# Altium footprint library XDCR_VCNL3020-GS18__TCXO.PcbLib: 1 footprints
Each footprint in its own frame and in the unit in brackets; x right, y up, seen from the top. Pads: shape width x height; smd on the part's side, far side on the other; paste and mask are expansions set on the pad; w line width, h text height; cw(c..) or ccw(c..) is an arc to the next point about the centre after c.
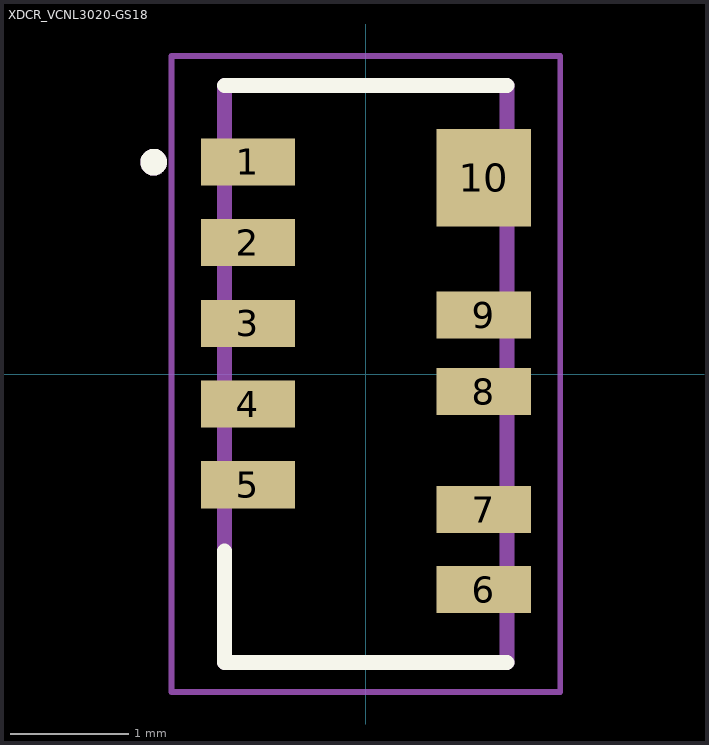
[diagram p0: the footprint, top view; thin cyan lines are the x and y axes]

## XDCR_VCNL3020-GS18 [mm]
pads (10):
  rect 0.8x0.4 smd: 1(-1,1.8) 2(-1,1.115) 3(-1,0.43) 4(-1,-0.255) 5(-1,-0.94) 6(1,-1.83) 7(1,-1.15) 8(1,-0.15) 9(1,0.5)
  rect 0.8x0.83 smd: 10(1,1.665)
Top Overlay:
  circle w0.127: c-1.8,1.797 r0.05
  lines w0.127: -1.2,-1.5 -1.2,-2.45 1.2,-2.45 ; -1.2,2.45 1.2,2.45
Mechanical 13:
  circle w0.127: c-1.8,1.797 r0.05
  lines w0.127: -1.2,-2.45 -1.2,2.45 1.2,2.45 1.2,-2.45 -1.2,-2.45
Mechanical 15:
  lines w0.05: -1.65,-2.7 -1.65,2.7 1.65,2.7 1.65,-2.7 -1.65,-2.7